# Altium footprint library WR-MPC4.PcbLib: 79 footprints (part 5 of 5)
Each footprint in its own frame and in the unit in brackets; x right, y up, seen from the top. Pads: shape width x height; smd on the part's side, far side on the other; paste and mask are expansions set on the pad; w line width, h text height; cw(c..) or ccw(c..) is an arc to the next point about the centre after c.
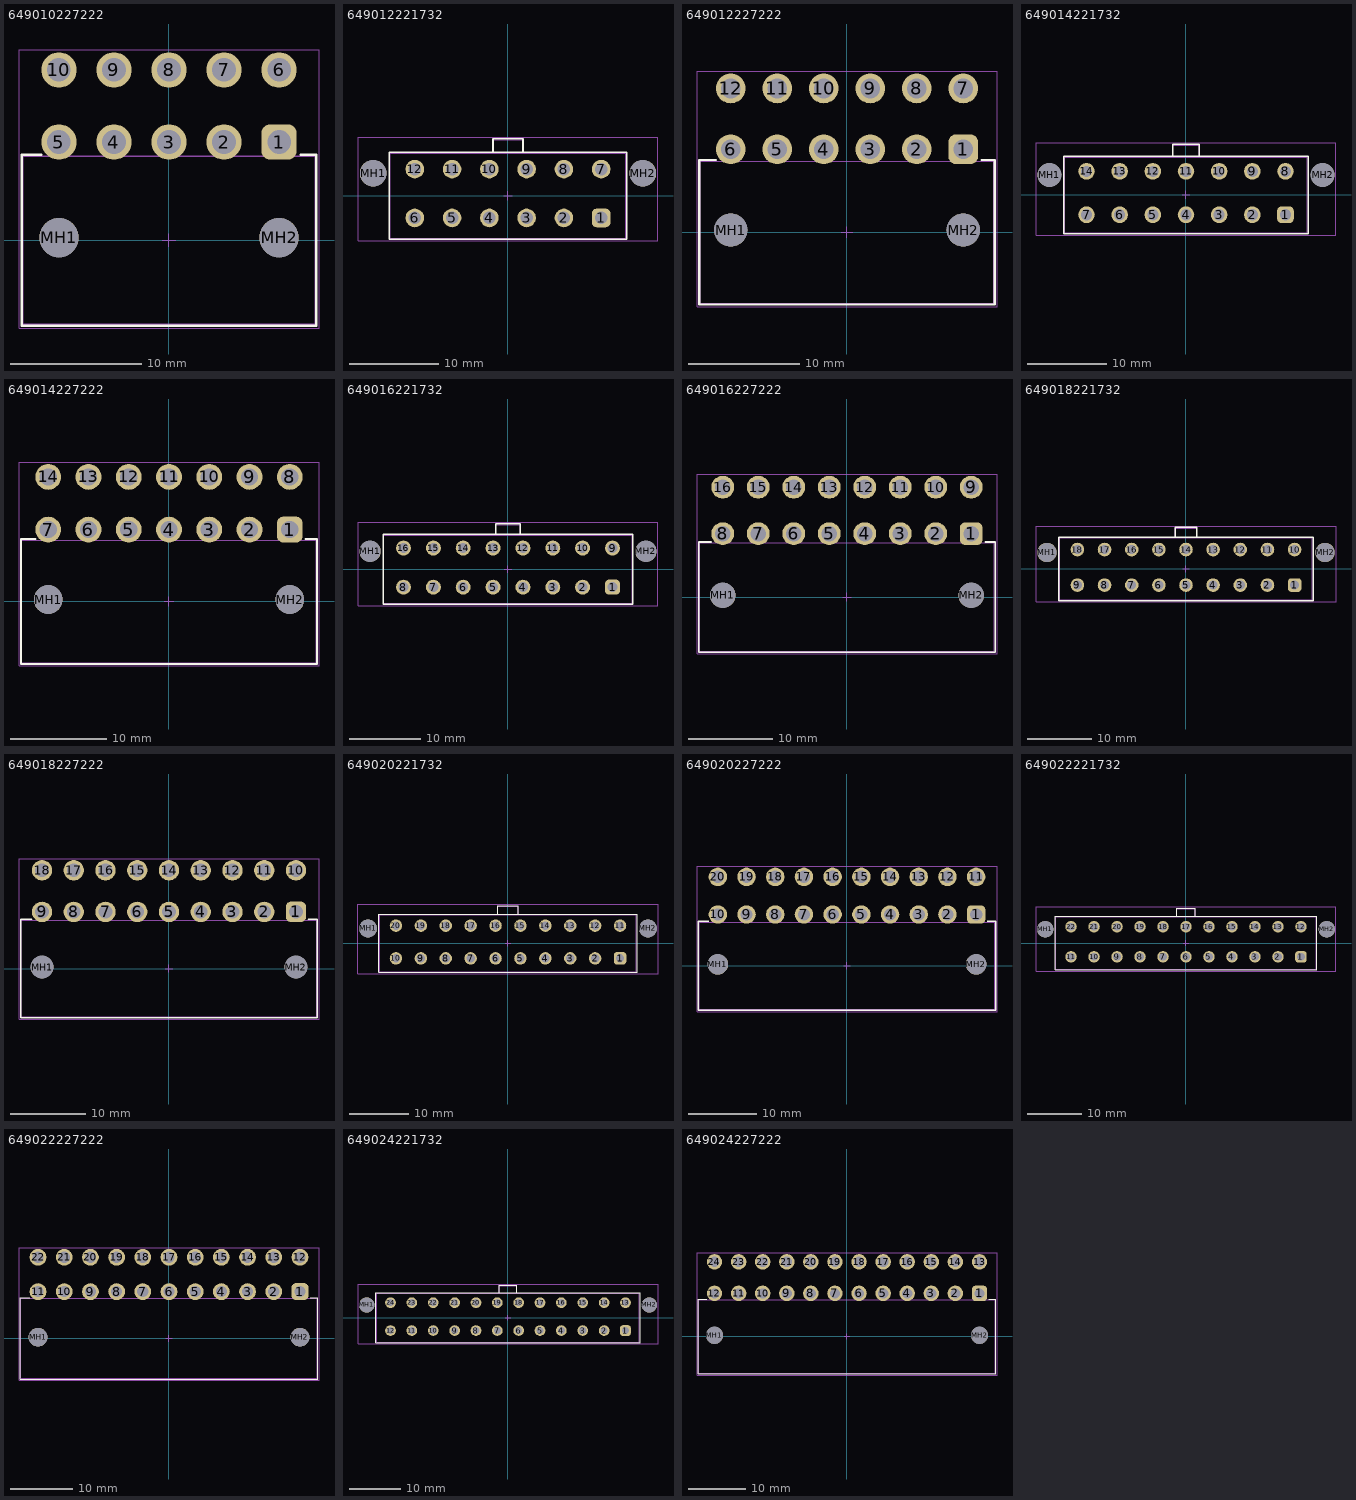
[diagram p4: the footprints below, top view; thin cyan lines are the x and y axes]

## 649010227222 [mm] "4.20mm Male Dual Row Angled Header with Mounting Pegs, 10p"
height 10
pads (12):
  rrect50% 2.7x2.7 hole 1.8: 1(8.4,7.5)
  round 2.7 hole 1.8: 2(4.2,7.5) 3(0,7.5) 4(-4.2,7.5) 5(-8.4,7.5) 6(8.4,13) 7(4.2,13) 8(0,13) 9(-4.2,13) 10(-8.4,13)
  round 3 hole 3 unplated: MH1(-8.4,0.2) MH2(8.4,0.2)
Top Overlay:
  lines w0.2: -9.75,6.525 -11.25,6.525 -11.25,-6.525 11.25,-6.525 11.25,6.525 10.05,6.525
Top Designator:
  text ".Designator" at -7.498,-0.5 h1.5
Top Component Outline:
  lines w0.1: -11.15,-6.4 11.15,-6.4 11.15,6.4 -11.15,6.4 -11.15,-6.4
Top Courtyard:
  lines w0.05: -0.5,0 0.5,0 ; 0,-0.5 0,0.5 ; -11.45,-6.725 -11.45,14.55 11.45,14.55 11.45,-6.725 -11.45,-6.725
3D body "649010227222.stp": height 11.43, standoff -3.47, extent -11.1,-6.4 11.396,13.57

## 649012221732 [mm] "4.20mm Male Dual Row Vertical Header with Mounting Pegs, 12p"
height 12.8
pads (14):
  rrect50% 2.1x2.1 hole 1.4: 1(10.5,-2.51)
  round 2.1 hole 1.4: 2(6.3,-2.51) 3(2.1,-2.51) 4(-2.1,-2.51) 5(-6.3,-2.51) 6(-10.5,-2.51) 7(10.5,2.99) 8(6.3,2.99) 9(2.1,2.99) 10(-2.1,2.99) 11(-6.3,2.99) 12(-10.5,2.99)
  round 3 hole 3 unplated: MH1(-15.2,2.53) MH2(15.2,2.53)
Top Overlay:
  lines w0.2: -1.7,4.94 -1.7,6.4 1.7,6.4 1.7,4.94 ; -13.375,-4.9 13.375,-4.9 13.375,4.9 -13.375,4.9 -13.375,-4.9
Top Designator:
  text ".Designator" at -7.498,-0.5 h1.5
Top Component Outline:
  lines w0.1: -1.7,4.84 -1.7,6.3 1.7,6.3 1.7,4.84 ; -13.25,-4.8 -13.25,4.8 13.25,4.8 13.25,-4.8 -13.25,-4.8
Top Courtyard:
  lines w0.05: -0.5,0 0.5,0 ; 0,-0.5 0,0.5 ; -16.9,-5.1 16.9,-5.1 16.9,6.6 -16.9,6.6 -16.9,-5.1
3D body "649012221732.stp": height 12.84, standoff -3.46, extent -16.2,-4.8 16.2,6.3

## 649012227222 [mm] "4.20mm Male Dual Row Angled Header with Mounting Pegs, 12p"
height 10
pads (14):
  rrect50% 2.7x2.7 hole 1.8: 1(10.5,7.5)
  round 2.7 hole 1.8: 2(6.3,7.5) 3(2.1,7.5) 4(-2.1,7.5) 5(-6.3,7.5) 6(-10.5,7.5) 7(10.5,13) 8(6.3,13) 9(2.1,13) 10(-2.1,13) 11(-6.3,13) 12(-10.5,13)
  round 3 hole 3 unplated: MH1(-10.5,0.2) MH2(10.5,0.2)
Top Overlay:
  lines w0.2: -11.85,6.525 -13.35,6.525 -13.35,-6.525 13.35,-6.525 13.35,6.525 12.15,6.525
Top Designator:
  text ".Designator" at -7.498,-0.5 h1.5
Top Component Outline:
  lines w0.1: -13.25,-6.4 13.25,-6.4 13.25,6.4 -13.25,6.4 -13.25,-6.4
Top Courtyard:
  lines w0.05: -0.5,0 0.5,0 ; 0,-0.5 0,0.5 ; -13.55,-6.725 13.55,-6.725 13.55,14.55 -13.55,14.55 -13.55,-6.725
3D body "649012227222.stp": height 11.43, standoff -3.47, extent -13.2,-6.4 13.496,13.57

## 649014221732 [mm] "4.20mm Male Dual Row Vertical Header with Mounting Pegs, 14p"
height 12.8
pads (16):
  rrect50% 2.1x2.1 hole 1.4: 1(12.6,-2.51)
  round 2.1 hole 1.4: 2(8.4,-2.51) 3(4.2,-2.51) 4(0,-2.51) 5(-4.2,-2.51) 6(-8.4,-2.51) 7(-12.6,-2.51) 8(12.6,2.99) 9(8.4,2.99) 10(4.2,2.99) 11(0,2.99) 12(-4.2,2.99) 13(-8.4,2.99) 14(-12.6,2.99)
  round 3 hole 3 unplated: MH1(-17.3,2.53) MH2(17.3,2.53)
Top Overlay:
  lines w0.2: -1.7,4.94 -1.7,6.4 1.7,6.4 1.7,4.94 ; -15.475,-4.9 -15.475,4.9 15.475,4.9 15.475,-4.9 -15.475,-4.9
Top Designator:
  text ".Designator" at -7.498,-0.5 h1.5
Top Component Outline:
  lines w0.1: -1.7,4.84 -1.7,6.3 1.7,6.3 1.7,4.84 ; -15.35,-4.8 15.35,-4.8 15.35,4.8 -15.35,4.8 -15.35,-4.8
Top Courtyard:
  lines w0.05: -0.5,0 0.5,0 ; 0,-0.5 0,0.5 ; -19,-5.1 -19,6.6 19,6.6 19,-5.1 -19,-5.1
3D body "649014221732.stp": height 12.84, standoff -3.46, extent -18.3,-4.8 18.3,6.3

## 649014227222 [mm] "4.20mm Male Dual Row Angled Header with Mounting Pegs, 14p"
height 10
pads (16):
  rrect50% 2.7x2.7 hole 1.8: 1(12.6,7.5)
  round 2.7 hole 1.8: 2(8.4,7.5) 3(4.2,7.5) 4(0,7.5) 5(-4.2,7.5) 6(-8.4,7.5) 7(-12.6,7.5) 8(12.6,13) 9(8.4,13) 10(4.2,13) 11(0,13) 12(-4.2,13) 13(-8.4,13) 14(-12.6,13)
  round 3 hole 3 unplated: MH1(-12.6,0.2) MH2(12.6,0.2)
Top Overlay:
  lines w0.2: -13.95,6.525 -15.45,6.525 -15.45,-6.525 15.45,-6.525 15.45,6.525 14.25,6.525
Top Designator:
  text ".Designator" at -7.498,-0.5 h1.5
Top Component Outline:
  lines w0.1: -15.35,-6.4 -15.35,6.4 15.35,6.4 15.35,-6.4 -15.35,-6.4
Top Courtyard:
  lines w0.05: -0.5,0 0.5,0 ; 0,-0.5 0,0.5 ; -15.65,-6.725 15.65,-6.725 15.65,14.55 -15.65,14.55 -15.65,-6.725
3D body "649014227222.stp": height 11.43, standoff -3.47, extent -15.3,-6.4 15.596,13.57

## 649016221732 [mm] "4.20mm Male Dual Row Vertical Header with Mounting Pegs, 16p"
height 12.8
pads (18):
  rrect50% 2.1x2.1 hole 1.4: 1(14.7,-2.51)
  round 2.1 hole 1.4: 2(10.5,-2.51) 3(6.3,-2.51) 4(2.1,-2.51) 5(-2.1,-2.51) 6(-6.3,-2.51) 7(-10.5,-2.51) 8(-14.7,-2.51) 9(14.7,2.99) 10(10.5,2.99) 11(6.3,2.99) 12(2.1,2.99) 13(-2.1,2.99) 14(-6.3,2.99) 15(-10.5,2.99) 16(-14.7,2.99)
  round 3 hole 3 unplated: MH1(-19.4,2.53) MH2(19.4,2.53)
Top Overlay:
  lines w0.2: -1.7,4.94 -1.7,6.4 1.7,6.4 1.7,4.94 ; -17.575,-4.9 -17.575,4.9 17.575,4.9 17.575,-4.9 -17.575,-4.9
Top Designator:
  text ".Designator" at -7.498,-0.5 h1.5
Top Component Outline:
  lines w0.1: -1.7,4.84 -1.7,6.3 1.7,6.3 1.7,4.84 ; -17.45,-4.8 17.45,-4.8 17.45,4.8 -17.45,4.8 -17.45,-4.8
Top Courtyard:
  lines w0.05: -0.5,0 0.5,0 ; 0,-0.5 0,0.5 ; -21.1,-5.1 -21.1,6.6 21.1,6.6 21.1,-5.1 -21.1,-5.1
3D body "649016221732.stp": height 12.84, standoff -3.46, extent -20.4,-4.8 20.4,6.3

## 649016227222 [mm] "4.20mm Male Dual Row Angled Header with Mounting Pegs, 16p"
height 10
pads (18):
  rrect50% 2.7x2.7 hole 1.8: 1(14.7,7.5)
  round 2.7 hole 1.8: 2(10.5,7.5) 3(6.3,7.5) 4(2.1,7.5) 5(-2.1,7.5) 6(-6.3,7.5) 7(-10.5,7.5) 8(-14.7,7.5) 9(14.7,13) 10(10.5,13) 11(6.3,13) 12(2.1,13) 13(-2.1,13) 14(-6.3,13) 15(-10.5,13) 16(-14.7,13)
  round 3 hole 3 unplated: MH1(-14.7,0.2) MH2(14.7,0.2)
Top Overlay:
  lines w0.2: -16.05,6.525 -17.55,6.525 -17.55,-6.525 17.55,-6.525 17.55,6.525 16.35,6.525
Top Designator:
  text ".Designator" at -7.498,-0.5 h1.5
Top Component Outline:
  lines w0.1: -17.45,-6.4 -17.45,6.4 17.45,6.4 17.45,-6.4 -17.45,-6.4
Top Courtyard:
  lines w0.05: -0.5,0 0.5,0 ; 0,-0.5 0,0.5 ; -17.75,-6.725 17.75,-6.725 17.75,14.55 -17.75,14.55 -17.75,-6.725
3D body "649016227222.stp": height 11.43, standoff -3.47, extent -17.4,-6.4 17.696,13.57

## 649018221732 [mm] "4.20mm Male Dual Row Vertical Header with Mounting Pegs, 18p"
height 12.8
pads (20):
  rrect50% 2.1x2.1 hole 1.4: 1(16.8,-2.51)
  round 2.1 hole 1.4: 2(12.6,-2.51) 3(8.4,-2.51) 4(4.2,-2.51) 5(0,-2.51) 6(-4.2,-2.51) 7(-8.4,-2.51) 8(-12.6,-2.51) 9(-16.8,-2.51) 10(16.8,2.99) 11(12.6,2.99) 12(8.4,2.99) 13(4.2,2.99) 14(0,2.99) 15(-4.2,2.99) 16(-8.4,2.99) 17(-12.6,2.99) 18(-16.8,2.99)
  round 3 hole 3 unplated: MH1(-21.5,2.53) MH2(21.5,2.53)
Top Overlay:
  lines w0.2: -1.7,4.94 -1.7,6.4 1.7,6.4 1.7,4.94 ; -19.675,-4.9 -19.675,4.9 19.675,4.9 19.675,-4.9 -19.675,-4.9
Top Designator:
  text ".Designator" at -7.498,-0.5 h1.5
Top Component Outline:
  lines w0.1: -1.7,4.84 -1.7,6.3 1.7,6.3 1.7,4.84 ; -19.55,-4.8 19.55,-4.8 19.55,4.8 -19.55,4.8 -19.55,-4.8
Top Courtyard:
  lines w0.05: -0.5,0 0.5,0 ; 0,-0.5 0,0.5 ; -23.2,-5.1 -23.2,6.6 23.2,6.6 23.2,-5.1 -23.2,-5.1
3D body "649018221732.stp": height 12.84, standoff -3.46, extent -22.5,-4.8 22.5,6.3

## 649018227222 [mm] "4.20mm Male Dual Row Angled Header with Mounting Pegs, 18p"
height 10
pads (20):
  rrect50% 2.7x2.7 hole 1.8: 1(16.8,7.5)
  round 2.7 hole 1.8: 2(12.6,7.5) 3(8.4,7.5) 4(4.2,7.5) 5(0,7.5) 6(-4.2,7.5) 7(-8.4,7.5) 8(-12.6,7.5) 9(-16.8,7.5) 10(16.8,13) 11(12.6,13) 12(8.4,13) 13(4.2,13) 14(0,13) 15(-4.2,13) 16(-8.4,13) 17(-12.6,13) 18(-16.8,13)
  round 3 hole 3 unplated: MH1(-16.8,0.2) MH2(16.8,0.2)
Top Overlay:
  lines w0.2: -18.15,6.525 -19.65,6.525 -19.65,-6.525 19.65,-6.525 19.65,6.525 18.45,6.525
Top Designator:
  text ".Designator" at -7.498,-0.5 h1.5
Top Component Outline:
  lines w0.1: -19.55,-6.4 -19.55,6.4 19.55,6.4 19.55,-6.4 -19.55,-6.4
Top Courtyard:
  lines w0.05: -0.5,0 0.5,0 ; 0,-0.5 0,0.5 ; -19.85,-6.725 19.85,-6.725 19.85,14.55 -19.85,14.55 -19.85,-6.725
3D body "649018227222.stp": height 11.43, standoff -3.47, extent -19.5,-6.4 19.796,13.57

## 649020221732 [mm] "4.20mm Male Dual Row Vertical Header with Mounting Pegs, 20p"
height 12.8
pads (22):
  rrect50% 2.1x2.1 hole 1.4: 1(18.9,-2.51)
  round 2.1 hole 1.4: 2(14.7,-2.51) 3(10.5,-2.51) 4(6.3,-2.51) 5(2.1,-2.51) 6(-2.1,-2.51) 7(-6.3,-2.51) 8(-10.5,-2.51) 9(-14.7,-2.51) 10(-18.9,-2.51) 11(18.9,2.99) 12(14.7,2.99) 13(10.5,2.99) 14(6.3,2.99) 15(2.1,2.99) 16(-2.1,2.99) 17(-6.3,2.99) 18(-10.5,2.99) 19(-14.7,2.99) 20(-18.9,2.99)
  round 3 hole 3 unplated: MH1(-23.6,2.53) MH2(23.6,2.53)
Top Overlay:
  lines w0.2: -1.7,4.94 -1.7,6.4 1.7,6.4 1.7,4.94 ; -21.775,-4.9 -21.775,4.9 21.775,4.9 21.775,-4.9 -21.775,-4.9
Top Designator:
  text ".Designator" at -7.498,-0.5 h1.5
Top Component Outline:
  lines w0.1: -1.7,4.84 -1.7,6.3 1.7,6.3 1.7,4.84 ; -21.65,-4.8 21.65,-4.8 21.65,4.8 -21.65,4.8 -21.65,-4.8
Top Courtyard:
  lines w0.05: -0.5,0 0.5,0 ; 0,-0.5 0,0.5 ; -25.3,-5.1 -25.3,6.6 25.3,6.6 25.3,-5.1 -25.3,-5.1
3D body "649020221732.stp": height 12.84, standoff -3.46, extent -24.6,-4.8 24.6,6.3

## 649020227222 [mm] "4.20mm Male Dual Row Angled Header with Mounting Pegs, 20p"
height 10
pads (22):
  rrect50% 2.7x2.7 hole 1.8: 1(18.9,7.5)
  round 2.7 hole 1.8: 2(14.7,7.5) 3(10.5,7.5) 4(6.3,7.5) 5(2.1,7.5) 6(-2.1,7.5) 7(-6.3,7.5) 8(-10.5,7.5) 9(-14.7,7.5) 10(-18.9,7.5) 11(18.9,13) 12(14.7,13) 13(10.5,13) 14(6.3,13) 15(2.1,13) 16(-2.1,13) 17(-6.3,13) 18(-10.5,13) 19(-14.7,13) 20(-18.9,13)
  round 3 hole 3 unplated: MH1(-18.9,0.2) MH2(18.9,0.2)
Top Overlay:
  lines w0.2: -20.25,6.525 -21.75,6.525 -21.75,-6.525 21.75,-6.525 21.75,6.525 20.55,6.525
Top Designator:
  text ".Designator" at -7.498,-0.5 h1.5
Top Component Outline:
  lines w0.1: -21.65,-6.4 -21.65,6.4 21.65,6.4 21.65,-6.4 -21.65,-6.4
Top Courtyard:
  lines w0.05: -0.5,0 0.5,0 ; 0,-0.5 0,0.5 ; -21.95,-6.725 21.95,-6.725 21.95,14.55 -21.95,14.55 -21.95,-6.725
3D body "649020227222.stp": height 11.43, standoff -3.47, extent -21.6,-6.4 21.896,13.57

## 649022221732 [mm] "4.20mm Male Dual Row Vertical Header with Mounting Pegs, 22p"
height 12.8
pads (24):
  rrect50% 2.1x2.1 hole 1.4: 1(21,-2.51)
  round 2.1 hole 1.4: 2(16.8,-2.51) 3(12.6,-2.51) 4(8.4,-2.51) 5(4.2,-2.51) 6(0,-2.51) 7(-4.2,-2.51) 8(-8.4,-2.51) 9(-12.6,-2.51) 10(-16.8,-2.51) 11(-21,-2.51) 12(21,2.99) 13(16.8,2.99) 14(12.6,2.99) 15(8.4,2.99) 16(4.2,2.99) 17(0,2.99) 18(-4.2,2.99) 19(-8.4,2.99) 20(-12.6,2.99) 21(-16.8,2.99) 22(-21,2.99)
  round 3 hole 3 unplated: MH1(-25.7,2.53) MH2(25.7,2.53)
Top Overlay:
  lines w0.2: -1.7,4.94 -1.7,6.4 1.7,6.4 1.7,4.94 ; -23.875,-4.9 23.875,-4.9 23.875,4.9 -23.875,4.9 -23.875,-4.9
Top Designator:
  text ".Designator" at -7.498,-0.5 h1.5
Top Component Outline:
  lines w0.1: -1.7,4.84 -1.7,6.3 1.7,6.3 1.7,4.84 ; -23.75,-4.8 -23.75,4.8 23.75,4.8 23.75,-4.8 -23.75,-4.8
Top Courtyard:
  lines w0.05: -0.5,0 0.5,0 ; 0,-0.5 0,0.5 ; -27.4,-5.1 27.4,-5.1 27.4,6.6 -27.4,6.6 -27.4,-5.1
3D body "649022221732.stp": height 12.84, standoff -3.46, extent -26.7,-4.8 26.7,6.3

## 649022227222 [mm] "4.20mm Male Dual Row Angled Header with Mounting Pegs, 22p"
height 10
pads (24):
  rrect50% 2.7x2.7 hole 1.8: 1(21,7.5)
  round 2.7 hole 1.8: 2(16.8,7.5) 3(12.6,7.5) 4(8.4,7.5) 5(4.2,7.5) 6(0,7.5) 7(-4.2,7.5) 8(-8.4,7.5) 9(-12.6,7.5) 10(-16.8,7.5) 11(-21,7.5) 12(21,13) 13(16.8,13) 14(12.6,13) 15(8.4,13) 16(4.2,13) 17(0,13) 18(-4.2,13) 19(-8.4,13) 20(-12.6,13) 21(-16.8,13) 22(-21,13)
  round 3 hole 3 unplated: MH1(-21,0.2) MH2(21,0.2)
Top Overlay:
  lines w0.2: -22.35,6.525 -23.85,6.525 -23.85,-6.525 23.85,-6.525 23.85,6.525 22.65,6.525
Top Designator:
  text ".Designator" at -7.498,-0.5 h1.5
Top Component Outline:
  lines w0.1: -23.75,-6.4 23.75,-6.4 23.75,6.4 -23.75,6.4 -23.75,-6.4
Top Courtyard:
  lines w0.05: -0.5,0 0.5,0 ; 0,-0.5 0,0.5 ; -24.05,-6.725 -24.05,14.55 24.05,14.55 24.05,-6.725 -24.05,-6.725
3D body "649022227222.stp": height 11.43, standoff -3.47, extent -23.75,-6.4 23.946,13.57

## 649024221732 [mm] "4.20mm Male Dual Row Vertical Header with Mounting Pegs, 24p"
height 12.8
pads (26):
  rrect50% 2.1x2.1 hole 1.4: 1(23.1,-2.51)
  round 2.1 hole 1.4: 2(18.9,-2.51) 3(14.7,-2.51) 4(10.5,-2.51) 5(6.3,-2.51) 6(2.1,-2.51) 7(-2.1,-2.51) 8(-6.3,-2.51) 9(-10.5,-2.51) 10(-14.7,-2.51) 11(-18.9,-2.51) 12(-23.1,-2.51) 13(23.1,2.99) 14(18.9,2.99) 15(14.7,2.99) 16(10.5,2.99) 17(6.3,2.99) 18(2.1,2.99) 19(-2.1,2.99) 20(-6.3,2.99) 21(-10.5,2.99) 22(-14.7,2.99) 23(-18.9,2.99) 24(-23.1,2.99)
  round 3 hole 3 unplated: MH1(-27.8,2.53) MH2(27.8,2.53)
Top Overlay:
  lines w0.2: -1.7,4.94 -1.7,6.4 1.7,6.4 1.7,4.94 ; -25.975,-4.9 25.975,-4.9 25.975,4.9 -25.975,4.9 -25.975,-4.9
Top Designator:
  text ".Designator" at -7.498,-0.5 h1.5
Top Component Outline:
  lines w0.1: -1.7,4.84 -1.7,6.3 1.7,6.3 1.7,4.84 ; -25.85,-4.8 -25.85,4.8 25.85,4.8 25.85,-4.8 -25.85,-4.8
Top Courtyard:
  lines w0.05: -0.5,0 0.5,0 ; 0,-0.5 0,0.5 ; -29.5,-5.1 29.5,-5.1 29.5,6.6 -29.5,6.6 -29.5,-5.1
3D body "649024221732.stp": height 12.84, standoff -3.46, extent -28.8,-4.8 28.8,6.3

## 649024227222 [mm] "4.20mm Male Dual Row Angled Header with Mounting Pegs, 24p"
height 10
pads (26):
  rrect50% 2.7x2.7 hole 1.8: 1(23.1,7.5)
  round 2.7 hole 1.8: 2(18.9,7.5) 3(14.7,7.5) 4(10.5,7.5) 5(6.3,7.5) 6(2.1,7.5) 7(-2.1,7.5) 8(-6.3,7.5) 9(-10.5,7.5) 10(-14.7,7.5) 11(-18.9,7.5) 12(-23.1,7.5) 13(23.1,13) 14(18.9,13) 15(14.7,13) 16(10.5,13) 17(6.3,13) 18(2.1,13) 19(-2.1,13) 20(-6.3,13) 21(-10.5,13) 22(-14.7,13) 23(-18.9,13) 24(-23.1,13)
  round 3 hole 3 unplated: MH1(-23.1,0.2) MH2(23.1,0.2)
Top Overlay:
  lines w0.2: -24.45,6.525 -25.95,6.525 -25.95,-6.525 25.95,-6.525 25.95,6.525 24.75,6.525
Top Designator:
  text ".Designator" at -7.498,-0.5 h1.5
Top Component Outline:
  lines w0.1: -25.85,-6.4 25.85,-6.4 25.85,6.4 -25.85,6.4 -25.85,-6.4
Top Courtyard:
  lines w0.05: -0.5,0 0.5,0 ; 0,-0.5 0,0.5 ; -26.15,-6.725 -26.15,14.55 26.15,14.55 26.15,-6.725 -26.15,-6.725
3D body "649024227222.stp": height 11.43, standoff -3.47, extent -25.8,-6.4 26.096,13.57